# Altium integrated library Maxim Digital Potentiometers.IntLib: 1045 symbols (part 8 of 42)
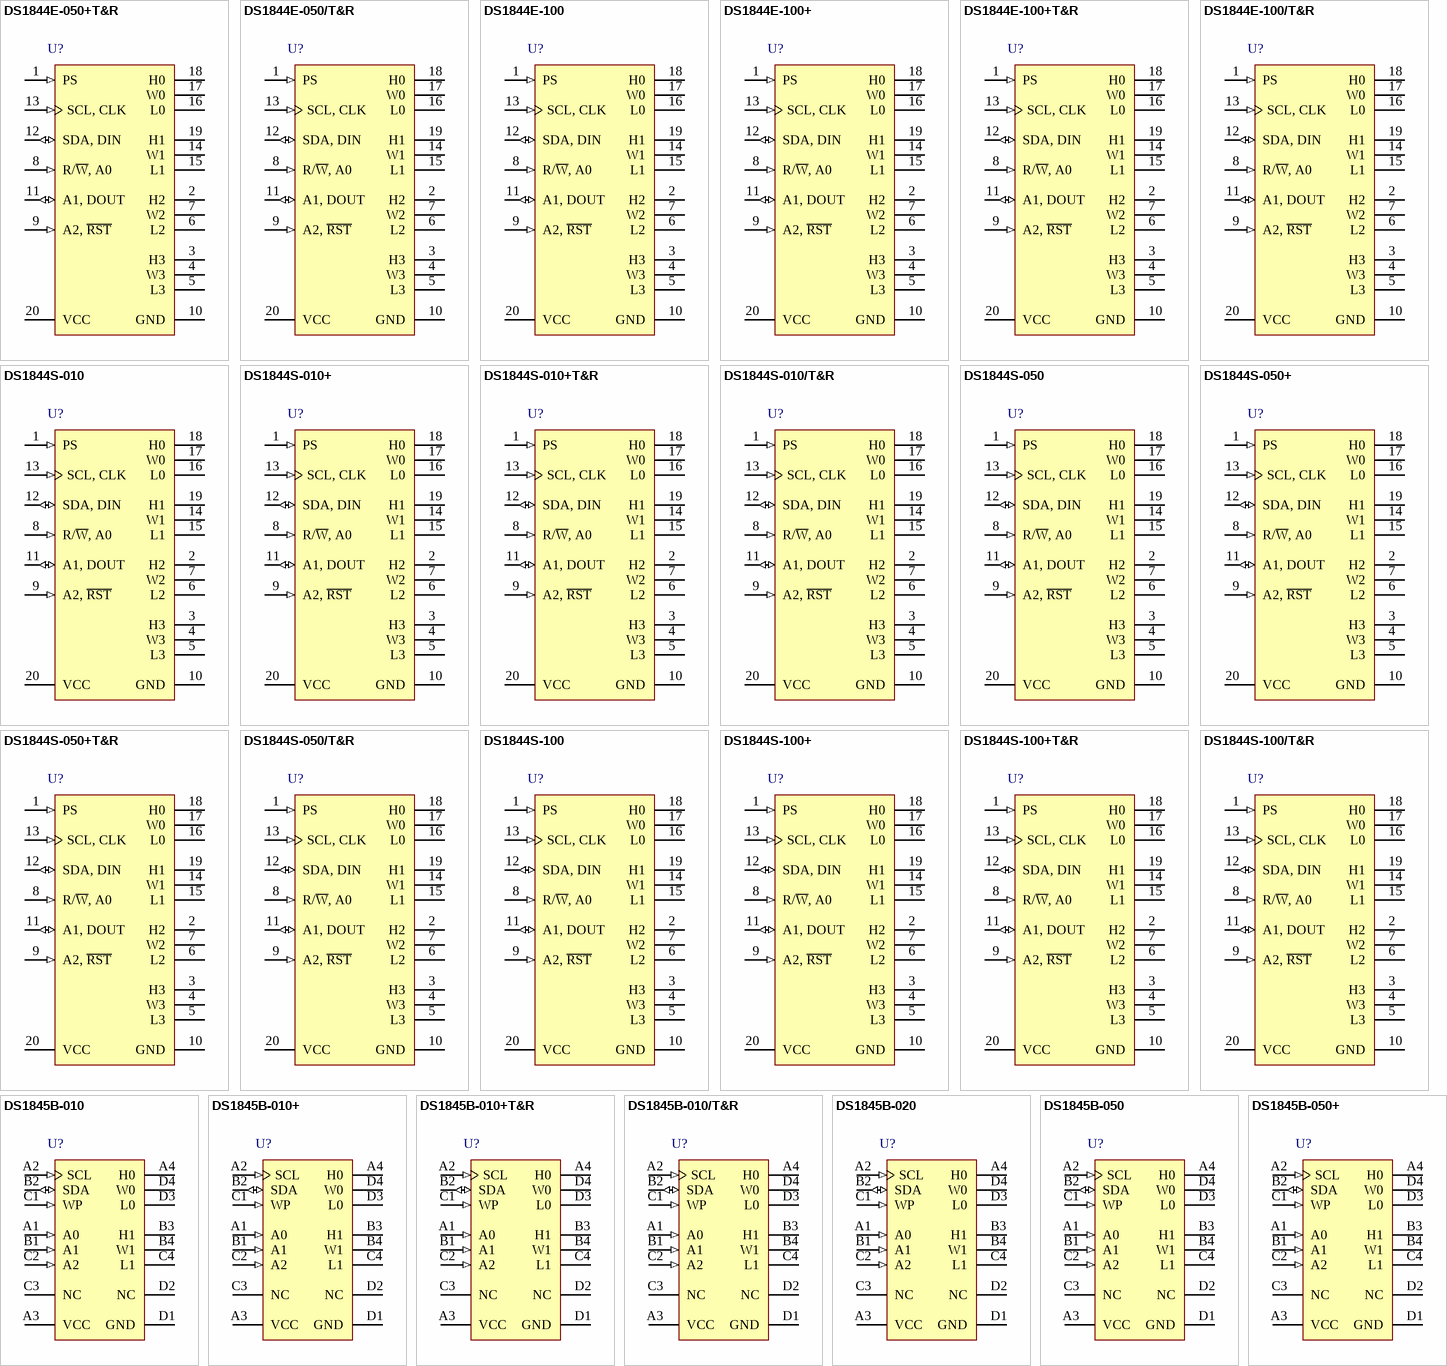
[diagram p36: symbols DS1844E-050+T&R to DS1845B-050+]

## DS1844S-010
designator U?
Quad Digital Potentiometer with 2-Wire or 5-Wire Serial Control Interface, Volatile, Linear Taper, 64 Steps, -40 to 85 degC, 20-pin SOIC (W20-1); PartNumber: DS1844S-010; DatasheetVersion: Rev. 2; PackageVersion: Rev. F, 10/2012; PackageReference: W20-1; PackageDescription: 20-Pin Small-Outline IC, Wide (0.3in) (W20-1), Body 12.8 x 7.5 mm, Pitch 1.27 mm; Supplier 1: Digi-Key; Supplier Part Number 1: DS1844S-010-ND; Supplier 2: Mouser; Supplier Part Number 2: N/A; Control Interface: 2-Wire or 5-Wire Serial; Mounting Technology: Surface Mount; Code_JEDEC: MS013; ComponentLink1Description: Manufacturer URL; ComponentLink1URL: http://www.maximintegrated.com/; ComponentLink2Description: Datasheet; ComponentLink2URL: http://datasheets.maximintegrated.com/en/ds/DS1844.pdf; ComponentLink3Description: Package Specification; ComponentLink3URL: http://pdfserv.maximintegrated.com/package_dwgs/21-0042.PDF
footprint MAXM-W20-1_N (SOIC, 20-Leads, Body 12.8x7.5mm, Pitch 1.27mm, IPC Medium Density)
footprint MAXM-W20-1_L (SOIC, 20-Leads, Body 12.8x7.5mm, Pitch 1.27mm, IPC High Density)
footprint MAXM-W20-1_M (SOIC, 20-Leads, Body 12.8x7.5mm, Pitch 1.27mm, IPC Low Density)
pins: 1 PS (in) "Port Select", 2 H2 "High-end Terminal of Pot", 3 H3 "High-end Terminal of Pot", 4 W3 "Wiper Terminal of Pot", 5 L3 "Low-end Terminal of Pot", 6 L2 "Low-end Terminal of Pot", 7 W2 "Wiper Terminal of Pot", 8 R/~{W}, A0 (in), 9 A2, ~{RST} (in), 10 GND (power) "Ground", 11 A1, DOUT (io), 12 SDA, DIN (io), 13 SCL, CLK (in), 14 W1 "Wiper Terminal of Pot", 15 L1 "Low-end Terminal of Pot", 16 L0 "Low-end Terminal of Pot", 17 W0 "Wiper Terminal of Pot", 18 H0 "High-end Terminal of Pot", 19 H1 "High-end Terminal of Pot", 20 VCC (power) "2.7V to 5.5V"

## DS1844S-010+
designator U?
Quad Digital Potentiometer with 2-Wire or 5-Wire Serial Control Interface, Volatile, Linear Taper, 64 Steps, -40 to 85 degC, 20-pin SOIC (W20+1), Pb-Free; PartNumber: DS1844S-010+; DatasheetVersion: Rev. 2; PackageVersion: Rev. F, 10/2012; PackageReference: W20+1; PackageDescription: 20-Pin Small-Outline IC, Wide (0.3in) (W20+1), Body 12.8 x 7.5 mm, Pitch 1.27 mm; Supplier 1: Digi-Key; Supplier Part Number 1: DS1844S-010+-ND; Supplier 2: Mouser; Supplier Part Number 2: 700-DS1844S-010; Control Interface: 2-Wire or 5-Wire Serial; Mounting Technology: Surface Mount; Code_JEDEC: MS013; ComponentLink1Description: Manufacturer URL; ComponentLink1URL: http://www.maximintegrated.com/; ComponentLink2Description: Datasheet; ComponentLink2URL: http://datasheets.maximintegrated.com/en/ds/DS1844.pdf; ComponentLink3Description: Package Specification; ComponentLink3URL: http://pdfserv.maximintegrated.com/package_dwgs/21-0042.PDF
footprint MAXM-W20+1_N (SOIC, 20-Leads, Body 12.8x7.5mm, Pitch 1.27mm, IPC Medium Density)
footprint MAXM-W20+1_L (SOIC, 20-Leads, Body 12.8x7.5mm, Pitch 1.27mm, IPC High Density)
footprint MAXM-W20+1_M (SOIC, 20-Leads, Body 12.8x7.5mm, Pitch 1.27mm, IPC Low Density)
pins: 1 PS (in) "Port Select", 2 H2 "High-end Terminal of Pot", 3 H3 "High-end Terminal of Pot", 4 W3 "Wiper Terminal of Pot", 5 L3 "Low-end Terminal of Pot", 6 L2 "Low-end Terminal of Pot", 7 W2 "Wiper Terminal of Pot", 8 R/~{W}, A0 (in), 9 A2, ~{RST} (in), 10 GND (power) "Ground", 11 A1, DOUT (io), 12 SDA, DIN (io), 13 SCL, CLK (in), 14 W1 "Wiper Terminal of Pot", 15 L1 "Low-end Terminal of Pot", 16 L0 "Low-end Terminal of Pot", 17 W0 "Wiper Terminal of Pot", 18 H0 "High-end Terminal of Pot", 19 H1 "High-end Terminal of Pot", 20 VCC (power) "2.7V to 5.5V"

## DS1844S-010+T&R
designator U?
Quad Digital Potentiometer with 2-Wire or 5-Wire Serial Control Interface, Volatile, Linear Taper, 64 Steps, -40 to 85 degC, 20-pin SOIC (W20+1), Pb-Free, Tape and Reel; PartNumber: DS1844S-010+T&R; DatasheetVersion: Rev. 2; PackageVersion: Rev. F, 10/2012; PackageReference: W20+1; PackageDescription: 20-Pin Small-Outline IC, Wide (0.3in) (W20+1), Body 12.8 x 7.5 mm, Pitch 1.27 mm; Supplier 1: Digi-Key; Supplier Part Number 1: DS1844S-010+T&R-ND; Supplier 2: Mouser; Supplier Part Number 2: 700-DS1844S-010T&R; Control Interface: 2-Wire or 5-Wire Serial; Mounting Technology: Surface Mount; Code_JEDEC: MS013; ComponentLink1Description: Manufacturer URL; ComponentLink1URL: http://www.maximintegrated.com/; ComponentLink2Description: Datasheet; ComponentLink2URL: http://datasheets.maximintegrated.com/en/ds/DS1844.pdf; ComponentLink3Description: Package Specification; ComponentLink3URL: http://pdfserv.maximintegrated.com/package_dwgs/21-0042.PDF
footprint MAXM-W20+1_N (SOIC, 20-Leads, Body 12.8x7.5mm, Pitch 1.27mm, IPC Medium Density)
footprint MAXM-W20+1_L (SOIC, 20-Leads, Body 12.8x7.5mm, Pitch 1.27mm, IPC High Density)
footprint MAXM-W20+1_M (SOIC, 20-Leads, Body 12.8x7.5mm, Pitch 1.27mm, IPC Low Density)
pins: 1 PS (in) "Port Select", 2 H2 "High-end Terminal of Pot", 3 H3 "High-end Terminal of Pot", 4 W3 "Wiper Terminal of Pot", 5 L3 "Low-end Terminal of Pot", 6 L2 "Low-end Terminal of Pot", 7 W2 "Wiper Terminal of Pot", 8 R/~{W}, A0 (in), 9 A2, ~{RST} (in), 10 GND (power) "Ground", 11 A1, DOUT (io), 12 SDA, DIN (io), 13 SCL, CLK (in), 14 W1 "Wiper Terminal of Pot", 15 L1 "Low-end Terminal of Pot", 16 L0 "Low-end Terminal of Pot", 17 W0 "Wiper Terminal of Pot", 18 H0 "High-end Terminal of Pot", 19 H1 "High-end Terminal of Pot", 20 VCC (power) "2.7V to 5.5V"

## DS1844S-010/T&R
designator U?
Quad Digital Potentiometer with 2-Wire or 5-Wire Serial Control Interface, Volatile, Linear Taper, 64 Steps, -40 to 85 degC, 20-pin SOIC (W20-1), Tape and Reel; PartNumber: DS1844S-010/T&R; DatasheetVersion: Rev. 2; PackageVersion: Rev. F, 10/2012; PackageReference: W20-1; PackageDescription: 20-Pin Small-Outline IC, Wide (0.3in) (W20-1), Body 12.8 x 7.5 mm, Pitch 1.27 mm; Supplier 1: Digi-Key; Supplier Part Number 1: DS1844S-010/T&R-ND; Supplier 2: Mouser; Supplier Part Number 2: N/A; Control Interface: 2-Wire or 5-Wire Serial; Mounting Technology: Surface Mount; Code_JEDEC: MS013; ComponentLink1Description: Manufacturer URL; ComponentLink1URL: http://www.maximintegrated.com/; ComponentLink2Description: Datasheet; ComponentLink2URL: http://datasheets.maximintegrated.com/en/ds/DS1844.pdf; ComponentLink3Description: Package Specification; ComponentLink3URL: http://pdfserv.maximintegrated.com/package_dwgs/21-0042.PDF
footprint MAXM-W20-1_N (SOIC, 20-Leads, Body 12.8x7.5mm, Pitch 1.27mm, IPC Medium Density)
footprint MAXM-W20-1_L (SOIC, 20-Leads, Body 12.8x7.5mm, Pitch 1.27mm, IPC High Density)
footprint MAXM-W20-1_M (SOIC, 20-Leads, Body 12.8x7.5mm, Pitch 1.27mm, IPC Low Density)
pins: 1 PS (in) "Port Select", 2 H2 "High-end Terminal of Pot", 3 H3 "High-end Terminal of Pot", 4 W3 "Wiper Terminal of Pot", 5 L3 "Low-end Terminal of Pot", 6 L2 "Low-end Terminal of Pot", 7 W2 "Wiper Terminal of Pot", 8 R/~{W}, A0 (in), 9 A2, ~{RST} (in), 10 GND (power) "Ground", 11 A1, DOUT (io), 12 SDA, DIN (io), 13 SCL, CLK (in), 14 W1 "Wiper Terminal of Pot", 15 L1 "Low-end Terminal of Pot", 16 L0 "Low-end Terminal of Pot", 17 W0 "Wiper Terminal of Pot", 18 H0 "High-end Terminal of Pot", 19 H1 "High-end Terminal of Pot", 20 VCC (power) "2.7V to 5.5V"

## DS1844S-050
designator U?
Quad Digital Potentiometer with 2-Wire or 5-Wire Serial Control Interface, Volatile, Linear Taper, 64 Steps, -40 to 85 degC, 20-pin SOIC (W20-1); PartNumber: DS1844S-050; DatasheetVersion: Rev. 2; PackageVersion: Rev. F, 10/2012; PackageReference: W20-1; PackageDescription: 20-Pin Small-Outline IC, Wide (0.3in) (W20-1), Body 12.8 x 7.5 mm, Pitch 1.27 mm; Supplier 1: Digi-Key; Supplier Part Number 1: DS1844S-050-ND; Supplier 2: Mouser; Supplier Part Number 2: N/A; Control Interface: 2-Wire or 5-Wire Serial; Mounting Technology: Surface Mount; Code_JEDEC: MS013; ComponentLink1Description: Manufacturer URL; ComponentLink1URL: http://www.maximintegrated.com/; ComponentLink2Description: Datasheet; ComponentLink2URL: http://datasheets.maximintegrated.com/en/ds/DS1844.pdf; ComponentLink3Description: Package Specification; ComponentLink3URL: http://pdfserv.maximintegrated.com/package_dwgs/21-0042.PDF
footprint MAXM-W20-1_N (SOIC, 20-Leads, Body 12.8x7.5mm, Pitch 1.27mm, IPC Medium Density)
footprint MAXM-W20-1_L (SOIC, 20-Leads, Body 12.8x7.5mm, Pitch 1.27mm, IPC High Density)
footprint MAXM-W20-1_M (SOIC, 20-Leads, Body 12.8x7.5mm, Pitch 1.27mm, IPC Low Density)
pins: 1 PS (in) "Port Select", 2 H2 "High-end Terminal of Pot", 3 H3 "High-end Terminal of Pot", 4 W3 "Wiper Terminal of Pot", 5 L3 "Low-end Terminal of Pot", 6 L2 "Low-end Terminal of Pot", 7 W2 "Wiper Terminal of Pot", 8 R/~{W}, A0 (in), 9 A2, ~{RST} (in), 10 GND (power) "Ground", 11 A1, DOUT (io), 12 SDA, DIN (io), 13 SCL, CLK (in), 14 W1 "Wiper Terminal of Pot", 15 L1 "Low-end Terminal of Pot", 16 L0 "Low-end Terminal of Pot", 17 W0 "Wiper Terminal of Pot", 18 H0 "High-end Terminal of Pot", 19 H1 "High-end Terminal of Pot", 20 VCC (power) "2.7V to 5.5V"

## DS1844S-050+
designator U?
Quad Digital Potentiometer with 2-Wire or 5-Wire Serial Control Interface, Volatile, Linear Taper, 64 Steps, -40 to 85 degC, 20-pin SOIC (W20+1), Pb-Free; PartNumber: DS1844S-050+; DatasheetVersion: Rev. 2; PackageVersion: Rev. F, 10/2012; PackageReference: W20+1; PackageDescription: 20-Pin Small-Outline IC, Wide (0.3in) (W20+1), Body 12.8 x 7.5 mm, Pitch 1.27 mm; Supplier 1: Digi-Key; Supplier Part Number 1: DS1844S-050+-ND; Supplier 2: Mouser; Supplier Part Number 2: 700-DS1844S-050; Control Interface: 2-Wire or 5-Wire Serial; Mounting Technology: Surface Mount; Code_JEDEC: MS013; ComponentLink1Description: Manufacturer URL; ComponentLink1URL: http://www.maximintegrated.com/; ComponentLink2Description: Datasheet; ComponentLink2URL: http://datasheets.maximintegrated.com/en/ds/DS1844.pdf; ComponentLink3Description: Package Specification; ComponentLink3URL: http://pdfserv.maximintegrated.com/package_dwgs/21-0042.PDF
footprint MAXM-W20+1_N (SOIC, 20-Leads, Body 12.8x7.5mm, Pitch 1.27mm, IPC Medium Density)
footprint MAXM-W20+1_L (SOIC, 20-Leads, Body 12.8x7.5mm, Pitch 1.27mm, IPC High Density)
footprint MAXM-W20+1_M (SOIC, 20-Leads, Body 12.8x7.5mm, Pitch 1.27mm, IPC Low Density)
pins: 1 PS (in) "Port Select", 2 H2 "High-end Terminal of Pot", 3 H3 "High-end Terminal of Pot", 4 W3 "Wiper Terminal of Pot", 5 L3 "Low-end Terminal of Pot", 6 L2 "Low-end Terminal of Pot", 7 W2 "Wiper Terminal of Pot", 8 R/~{W}, A0 (in), 9 A2, ~{RST} (in), 10 GND (power) "Ground", 11 A1, DOUT (io), 12 SDA, DIN (io), 13 SCL, CLK (in), 14 W1 "Wiper Terminal of Pot", 15 L1 "Low-end Terminal of Pot", 16 L0 "Low-end Terminal of Pot", 17 W0 "Wiper Terminal of Pot", 18 H0 "High-end Terminal of Pot", 19 H1 "High-end Terminal of Pot", 20 VCC (power) "2.7V to 5.5V"

## DS1844S-050+T&R
designator U?
Quad Digital Potentiometer with 2-Wire or 5-Wire Serial Control Interface, Volatile, Linear Taper, 64 Steps, -40 to 85 degC, 20-pin SOIC (W20+1), Pb-Free, Tape and Reel; PartNumber: DS1844S-050+T&R; DatasheetVersion: Rev. 2; PackageVersion: Rev. F, 10/2012; PackageReference: W20+1; PackageDescription: 20-Pin Small-Outline IC, Wide (0.3in) (W20+1), Body 12.8 x 7.5 mm, Pitch 1.27 mm; Supplier 1: Digi-Key; Supplier Part Number 1: DS1844S-050+T&R-ND; Supplier 2: Mouser; Supplier Part Number 2: 700-DS1844S-050T&R; Control Interface: 2-Wire or 5-Wire Serial; Mounting Technology: Surface Mount; Code_JEDEC: MS013; ComponentLink1Description: Manufacturer URL; ComponentLink1URL: http://www.maximintegrated.com/; ComponentLink2Description: Datasheet; ComponentLink2URL: http://datasheets.maximintegrated.com/en/ds/DS1844.pdf; ComponentLink3Description: Package Specification; ComponentLink3URL: http://pdfserv.maximintegrated.com/package_dwgs/21-0042.PDF
footprint MAXM-W20+1_N (SOIC, 20-Leads, Body 12.8x7.5mm, Pitch 1.27mm, IPC Medium Density)
footprint MAXM-W20+1_L (SOIC, 20-Leads, Body 12.8x7.5mm, Pitch 1.27mm, IPC High Density)
footprint MAXM-W20+1_M (SOIC, 20-Leads, Body 12.8x7.5mm, Pitch 1.27mm, IPC Low Density)
pins: 1 PS (in) "Port Select", 2 H2 "High-end Terminal of Pot", 3 H3 "High-end Terminal of Pot", 4 W3 "Wiper Terminal of Pot", 5 L3 "Low-end Terminal of Pot", 6 L2 "Low-end Terminal of Pot", 7 W2 "Wiper Terminal of Pot", 8 R/~{W}, A0 (in), 9 A2, ~{RST} (in), 10 GND (power) "Ground", 11 A1, DOUT (io), 12 SDA, DIN (io), 13 SCL, CLK (in), 14 W1 "Wiper Terminal of Pot", 15 L1 "Low-end Terminal of Pot", 16 L0 "Low-end Terminal of Pot", 17 W0 "Wiper Terminal of Pot", 18 H0 "High-end Terminal of Pot", 19 H1 "High-end Terminal of Pot", 20 VCC (power) "2.7V to 5.5V"

## DS1844S-050/T&R
designator U?
Quad Digital Potentiometer with 2-Wire or 5-Wire Serial Control Interface, Volatile, Linear Taper, 64 Steps, -40 to 85 degC, 20-pin SOIC (W20-1), Tape and Reel; PartNumber: DS1844S-050/T&R; DatasheetVersion: Rev. 2; PackageVersion: Rev. F, 10/2012; PackageReference: W20-1; PackageDescription: 20-Pin Small-Outline IC, Wide (0.3in) (W20-1), Body 12.8 x 7.5 mm, Pitch 1.27 mm; Supplier 1: Mouser; Supplier Part Number 1: N/A; Control Interface: 2-Wire or 5-Wire Serial; Mounting Technology: Surface Mount; Code_JEDEC: MS013; ComponentLink1Description: Manufacturer URL; ComponentLink1URL: http://www.maximintegrated.com/; ComponentLink2Description: Datasheet; ComponentLink2URL: http://datasheets.maximintegrated.com/en/ds/DS1844.pdf; ComponentLink3Description: Package Specification; ComponentLink3URL: http://pdfserv.maximintegrated.com/package_dwgs/21-0042.PDF
footprint MAXM-W20-1_N (SOIC, 20-Leads, Body 12.8x7.5mm, Pitch 1.27mm, IPC Medium Density)
footprint MAXM-W20-1_L (SOIC, 20-Leads, Body 12.8x7.5mm, Pitch 1.27mm, IPC High Density)
footprint MAXM-W20-1_M (SOIC, 20-Leads, Body 12.8x7.5mm, Pitch 1.27mm, IPC Low Density)
pins: 1 PS (in) "Port Select", 2 H2 "High-end Terminal of Pot", 3 H3 "High-end Terminal of Pot", 4 W3 "Wiper Terminal of Pot", 5 L3 "Low-end Terminal of Pot", 6 L2 "Low-end Terminal of Pot", 7 W2 "Wiper Terminal of Pot", 8 R/~{W}, A0 (in), 9 A2, ~{RST} (in), 10 GND (power) "Ground", 11 A1, DOUT (io), 12 SDA, DIN (io), 13 SCL, CLK (in), 14 W1 "Wiper Terminal of Pot", 15 L1 "Low-end Terminal of Pot", 16 L0 "Low-end Terminal of Pot", 17 W0 "Wiper Terminal of Pot", 18 H0 "High-end Terminal of Pot", 19 H1 "High-end Terminal of Pot", 20 VCC (power) "2.7V to 5.5V"

## DS1844S-100
designator U?
Quad Digital Potentiometer with 2-Wire or 5-Wire Serial Control Interface, Volatile, Linear Taper, 64 Steps, -40 to 85 degC, 20-pin SOIC (W20-1); PartNumber: DS1844S-100; DatasheetVersion: Rev. 2; PackageVersion: Rev. F, 10/2012; PackageReference: W20-1; PackageDescription: 20-Pin Small-Outline IC, Wide (0.3in) (W20-1), Body 12.8 x 7.5 mm, Pitch 1.27 mm; Supplier 1: Digi-Key; Supplier Part Number 1: DS1844S-100-ND; Supplier 2: Mouser; Supplier Part Number 2: N/A; Control Interface: 2-Wire or 5-Wire Serial; Mounting Technology: Surface Mount; Code_JEDEC: MS013; ComponentLink1Description: Manufacturer URL; ComponentLink1URL: http://www.maximintegrated.com/; ComponentLink2Description: Datasheet; ComponentLink2URL: http://datasheets.maximintegrated.com/en/ds/DS1844.pdf; ComponentLink3Description: Package Specification; ComponentLink3URL: http://pdfserv.maximintegrated.com/package_dwgs/21-0042.PDF
footprint MAXM-W20-1_N (SOIC, 20-Leads, Body 12.8x7.5mm, Pitch 1.27mm, IPC Medium Density)
footprint MAXM-W20-1_L (SOIC, 20-Leads, Body 12.8x7.5mm, Pitch 1.27mm, IPC High Density)
footprint MAXM-W20-1_M (SOIC, 20-Leads, Body 12.8x7.5mm, Pitch 1.27mm, IPC Low Density)
pins: 1 PS (in) "Port Select", 2 H2 "High-end Terminal of Pot", 3 H3 "High-end Terminal of Pot", 4 W3 "Wiper Terminal of Pot", 5 L3 "Low-end Terminal of Pot", 6 L2 "Low-end Terminal of Pot", 7 W2 "Wiper Terminal of Pot", 8 R/~{W}, A0 (in), 9 A2, ~{RST} (in), 10 GND (power) "Ground", 11 A1, DOUT (io), 12 SDA, DIN (io), 13 SCL, CLK (in), 14 W1 "Wiper Terminal of Pot", 15 L1 "Low-end Terminal of Pot", 16 L0 "Low-end Terminal of Pot", 17 W0 "Wiper Terminal of Pot", 18 H0 "High-end Terminal of Pot", 19 H1 "High-end Terminal of Pot", 20 VCC (power) "2.7V to 5.5V"

## DS1844S-100+
designator U?
Quad Digital Potentiometer with 2-Wire or 5-Wire Serial Control Interface, Volatile, Linear Taper, 64 Steps, -40 to 85 degC, 20-pin SOIC (W20+1), Pb-Free; PartNumber: DS1844S-100+; DatasheetVersion: Rev. 2; PackageVersion: Rev. F, 10/2012; PackageReference: W20+1; PackageDescription: 20-Pin Small-Outline IC, Wide (0.3in) (W20+1), Body 12.8 x 7.5 mm, Pitch 1.27 mm; Supplier 1: Digi-Key; Supplier Part Number 1: DS1844S-100+-ND; Supplier 2: Mouser; Supplier Part Number 2: 700-DS1844S-100; Control Interface: 2-Wire or 5-Wire Serial; Mounting Technology: Surface Mount; Code_JEDEC: MS013; ComponentLink1Description: Manufacturer URL; ComponentLink1URL: http://www.maximintegrated.com/; ComponentLink2Description: Datasheet; ComponentLink2URL: http://datasheets.maximintegrated.com/en/ds/DS1844.pdf; ComponentLink3Description: Package Specification; ComponentLink3URL: http://pdfserv.maximintegrated.com/package_dwgs/21-0042.PDF
footprint MAXM-W20+1_N (SOIC, 20-Leads, Body 12.8x7.5mm, Pitch 1.27mm, IPC Medium Density)
footprint MAXM-W20+1_L (SOIC, 20-Leads, Body 12.8x7.5mm, Pitch 1.27mm, IPC High Density)
footprint MAXM-W20+1_M (SOIC, 20-Leads, Body 12.8x7.5mm, Pitch 1.27mm, IPC Low Density)
pins: 1 PS (in) "Port Select", 2 H2 "High-end Terminal of Pot", 3 H3 "High-end Terminal of Pot", 4 W3 "Wiper Terminal of Pot", 5 L3 "Low-end Terminal of Pot", 6 L2 "Low-end Terminal of Pot", 7 W2 "Wiper Terminal of Pot", 8 R/~{W}, A0 (in), 9 A2, ~{RST} (in), 10 GND (power) "Ground", 11 A1, DOUT (io), 12 SDA, DIN (io), 13 SCL, CLK (in), 14 W1 "Wiper Terminal of Pot", 15 L1 "Low-end Terminal of Pot", 16 L0 "Low-end Terminal of Pot", 17 W0 "Wiper Terminal of Pot", 18 H0 "High-end Terminal of Pot", 19 H1 "High-end Terminal of Pot", 20 VCC (power) "2.7V to 5.5V"

## DS1844S-100+T&R
designator U?
Quad Digital Potentiometer with 2-Wire or 5-Wire Serial Control Interface, Volatile, Linear Taper, 64 Steps, -40 to 85 degC, 20-pin SOIC (W20+1), Pb-Free, Tape and Reel; PartNumber: DS1844S-100+T&R; DatasheetVersion: Rev. 2; PackageVersion: Rev. F, 10/2012; PackageReference: W20+1; PackageDescription: 20-Pin Small-Outline IC, Wide (0.3in) (W20+1), Body 12.8 x 7.5 mm, Pitch 1.27 mm; Supplier 1: Digi-Key; Supplier Part Number 1: DS1844S-100+T&R-ND; Supplier 2: Mouser; Supplier Part Number 2: 700-DS1844S-100T&R; Control Interface: 2-Wire or 5-Wire Serial; Mounting Technology: Surface Mount; Code_JEDEC: MS013; ComponentLink1Description: Manufacturer URL; ComponentLink1URL: http://www.maximintegrated.com/; ComponentLink2Description: Datasheet; ComponentLink2URL: http://datasheets.maximintegrated.com/en/ds/DS1844.pdf; ComponentLink3Description: Package Specification; ComponentLink3URL: http://pdfserv.maximintegrated.com/package_dwgs/21-0042.PDF
footprint MAXM-W20+1_N (SOIC, 20-Leads, Body 12.8x7.5mm, Pitch 1.27mm, IPC Medium Density)
footprint MAXM-W20+1_L (SOIC, 20-Leads, Body 12.8x7.5mm, Pitch 1.27mm, IPC High Density)
footprint MAXM-W20+1_M (SOIC, 20-Leads, Body 12.8x7.5mm, Pitch 1.27mm, IPC Low Density)
pins: 1 PS (in) "Port Select", 2 H2 "High-end Terminal of Pot", 3 H3 "High-end Terminal of Pot", 4 W3 "Wiper Terminal of Pot", 5 L3 "Low-end Terminal of Pot", 6 L2 "Low-end Terminal of Pot", 7 W2 "Wiper Terminal of Pot", 8 R/~{W}, A0 (in), 9 A2, ~{RST} (in), 10 GND (power) "Ground", 11 A1, DOUT (io), 12 SDA, DIN (io), 13 SCL, CLK (in), 14 W1 "Wiper Terminal of Pot", 15 L1 "Low-end Terminal of Pot", 16 L0 "Low-end Terminal of Pot", 17 W0 "Wiper Terminal of Pot", 18 H0 "High-end Terminal of Pot", 19 H1 "High-end Terminal of Pot", 20 VCC (power) "2.7V to 5.5V"

## DS1844S-100/T&R
designator U?
Quad Digital Potentiometer with 2-Wire or 5-Wire Serial Control Interface, Volatile, Linear Taper, 64 Steps, -40 to 85 degC, 20-pin SOIC (W20-1), Tape and Reel; PartNumber: DS1844S-100/T&R; DatasheetVersion: Rev. 2; PackageVersion: Rev. F, 10/2012; PackageReference: W20-1; PackageDescription: 20-Pin Small-Outline IC, Wide (0.3in) (W20-1), Body 12.8 x 7.5 mm, Pitch 1.27 mm; Supplier 1: Digi-Key; Supplier Part Number 1: DS1844S-100/T&R-ND; Supplier 2: Mouser; Supplier Part Number 2: N/A; Control Interface: 2-Wire or 5-Wire Serial; Mounting Technology: Surface Mount; Code_JEDEC: MS013; ComponentLink1Description: Manufacturer URL; ComponentLink1URL: http://www.maximintegrated.com/; ComponentLink2Description: Datasheet; ComponentLink2URL: http://datasheets.maximintegrated.com/en/ds/DS1844.pdf; ComponentLink3Description: Package Specification; ComponentLink3URL: http://pdfserv.maximintegrated.com/package_dwgs/21-0042.PDF
footprint MAXM-W20-1_N (SOIC, 20-Leads, Body 12.8x7.5mm, Pitch 1.27mm, IPC Medium Density)
footprint MAXM-W20-1_L (SOIC, 20-Leads, Body 12.8x7.5mm, Pitch 1.27mm, IPC High Density)
footprint MAXM-W20-1_M (SOIC, 20-Leads, Body 12.8x7.5mm, Pitch 1.27mm, IPC Low Density)
pins: 1 PS (in) "Port Select", 2 H2 "High-end Terminal of Pot", 3 H3 "High-end Terminal of Pot", 4 W3 "Wiper Terminal of Pot", 5 L3 "Low-end Terminal of Pot", 6 L2 "Low-end Terminal of Pot", 7 W2 "Wiper Terminal of Pot", 8 R/~{W}, A0 (in), 9 A2, ~{RST} (in), 10 GND (power) "Ground", 11 A1, DOUT (io), 12 SDA, DIN (io), 13 SCL, CLK (in), 14 W1 "Wiper Terminal of Pot", 15 L1 "Low-end Terminal of Pot", 16 L0 "Low-end Terminal of Pot", 17 W0 "Wiper Terminal of Pot", 18 H0 "High-end Terminal of Pot", 19 H1 "High-end Terminal of Pot", 20 VCC (power) "2.7V to 5.5V"

## DS1845B-010
designator U?
Dual NV Potentiometer and Memory with 2-Wire Addressable Control Interface, Non-Volatile, Linear Taper, 100+256 Steps, -40 to 85 degC, 16-pin CSBGA (X16-1); PartNumber: DS1845B-010; DatasheetVersion: Rev. 3; PackageVersion: Rev. B, 06/2010; PackageReference: X16-1; PackageDescription: 16-Ball Chip-Scale Ball-Grid Array (X16-1), Body 4 x 4 mm, Pitch 1.0 mm; Supplier 1: Digi-Key; Supplier Part Number 1: DS1845B-010-ND; Supplier 2: Mouser; Supplier Part Number 2: N/A; Applications: Fiber Communications, GBIC; Control Interface: 2-Wire Addressable; Features: 256-Byte User EEPROM, EEPROM Wiper Memory; Mounting Technology: Surface Mount; ComponentLink1Description: Manufacturer URL; ComponentLink1URL: http://www.maximintegrated.com/; ComponentLink2Description: Datasheet; ComponentLink2URL: http://datasheets.maximintegrated.com/en/ds/DS1845.pdf; ComponentLink3Description: Package Specification; ComponentLink3URL: http://pdfserv.maximintegrated.com/package_dwgs/21-0355.PDF
footprint MAXM-X16-1 (BGA, 16-Balls, Body 4x4mm, Pitch 1.0mm)
pins: A1 A0 (in) "Address Input. Pins A0, A1, and A2 are used to specify the address of each DS1855 when used in a multi-dropped configuration. Up to eight DS1855s may be addressed on a single 2-wire bus.", A2 SCL (in) "2-Wire Serial Clock Input. The serial clock input is used to clock data into the DS1855 on rising edges and clock data out on falling edges.", A3 VCC (power) "Power Supply Terminal. The DS1855 will support supply voltages ranging from +2.7V to +5.5V.", A4 H0 "High terminal of Potentiometer 0. For both potentiometers, it is not required that the high terminal be connected to a potential greater than the low terminal. Voltage applied to the high terminal of each potentiometer (See Datasheet)", B1 A1 (in) "Address Input.", B2 SDA (io) "2-Wire serial data interface. The serial data pin is for serial data transfer to and from the DS1855. The pin is open drain and may be wire-ORed with other open drain or open collector interfaces.", B3 H1 "High terminal of Potentiometer 1.", B4 W1 "Wiper terminal of Pot 1. The wiper position of Potentiometer 1 is determined by the byte at EEPROM memory location F8h.", C1 WP (in) "Write Protect Input. If set to logic 0, the data in memory and the potentiometer wiper setting may be changed. If set to logic 1, both the memory and the potentiometer wiper settings will be write protected. The WP pin is (See Datasheet)", C2 A2 (in) "Address Input.", C3 NC "No Connect.", C4 L1 "Low terminal of Potentiometer 1.", D1 GND (power) "Ground Terminal.", D2 NC "No Connect.", D3 L0 "Low terminal of Potentiometer 0. For both potentiometers, it is not required that the low terminal be connected to a potential less than the high terminal. Voltage applied to the low terminal of each potentiometer cannot (See Datasheet)", D4 W0 "Wiper terminal of Pot 0. The wiper position of Potentiometer 0 is determined by the byte at EEPROM memory location F9h. Voltage applied to the wiper terminal of each potentiometer cannot exceed the power supply voltage, VCC, (See Datasheet)"

## DS1845B-010+
designator U?
Dual NV Potentiometer and Memory with 2-Wire Addressable Control Interface, Non-Volatile, Linear Taper, 100+256 Steps, -40 to 85 degC, 16-pin CSBGA (X16+1), Pb-Free; PartNumber: DS1845B-010+; DatasheetVersion: Rev. 3; PackageVersion: Rev. B, 06/2010; PackageReference: X16+1; PackageDescription: 16-Ball Chip-Scale Ball-Grid Array (X16+1), Body 4 x 4 mm, Pitch 1.0 mm; Supplier 1: Digi-Key; Supplier Part Number 1: DS1845B-010+-ND; Supplier 2: Mouser; Supplier Part Number 2: 700-DS1845B-010; Applications: Fiber Communications, GBIC; Control Interface: 2-Wire Addressable; Features: 256-Byte User EEPROM, EEPROM Wiper Memory; Mounting Technology: Surface Mount; ComponentLink1Description: Manufacturer URL; ComponentLink1URL: http://www.maximintegrated.com/; ComponentLink2Description: Datasheet; ComponentLink2URL: http://datasheets.maximintegrated.com/en/ds/DS1845.pdf; ComponentLink3Description: Package Specification; ComponentLink3URL: http://pdfserv.maximintegrated.com/package_dwgs/21-0355.PDF
footprint MAXM-X16+1 (BGA, 16-Balls, Body 4x4mm, Pitch 1.0mm)
pins: A1 A0 (in) "Address Input. Pins A0, A1, and A2 are used to specify the address of each DS1855 when used in a multi-dropped configuration. Up to eight DS1855s may be addressed on a single 2-wire bus.", A2 SCL (in) "2-Wire Serial Clock Input. The serial clock input is used to clock data into the DS1855 on rising edges and clock data out on falling edges.", A3 VCC (power) "Power Supply Terminal. The DS1855 will support supply voltages ranging from +2.7V to +5.5V.", A4 H0 "High terminal of Potentiometer 0. For both potentiometers, it is not required that the high terminal be connected to a potential greater than the low terminal. Voltage applied to the high terminal of each potentiometer (See Datasheet)", B1 A1 (in) "Address Input.", B2 SDA (io) "2-Wire serial data interface. The serial data pin is for serial data transfer to and from the DS1855. The pin is open drain and may be wire-ORed with other open drain or open collector interfaces.", B3 H1 "High terminal of Potentiometer 1.", B4 W1 "Wiper terminal of Pot 1. The wiper position of Potentiometer 1 is determined by the byte at EEPROM memory location F8h.", C1 WP (in) "Write Protect Input. If set to logic 0, the data in memory and the potentiometer wiper setting may be changed. If set to logic 1, both the memory and the potentiometer wiper settings will be write protected. The WP pin is (See Datasheet)", C2 A2 (in) "Address Input.", C3 NC "No Connect.", C4 L1 "Low terminal of Potentiometer 1.", D1 GND (power) "Ground Terminal.", D2 NC "No Connect.", D3 L0 "Low terminal of Potentiometer 0. For both potentiometers, it is not required that the low terminal be connected to a potential less than the high terminal. Voltage applied to the low terminal of each potentiometer cannot (See Datasheet)", D4 W0 "Wiper terminal of Pot 0. The wiper position of Potentiometer 0 is determined by the byte at EEPROM memory location F9h. Voltage applied to the wiper terminal of each potentiometer cannot exceed the power supply voltage, VCC, (See Datasheet)"

## DS1845B-010+T&R
designator U?
Dual NV Potentiometer and Memory with 2-Wire Addressable Control Interface, Non-Volatile, Linear Taper, 100+256 Steps, -40 to 85 degC, 16-pin CSBGA (X16+1), Pb-Free, Tape and Reel; PartNumber: DS1845B-010+T&R; DatasheetVersion: Rev. 3; PackageVersion: Rev. B, 06/2010; PackageReference: X16+1; PackageDescription: 16-Ball Chip-Scale Ball-Grid Array (X16+1), Body 4 x 4 mm, Pitch 1.0 mm; Supplier 1: Digi-Key; Supplier Part Number 1: DS1845B-010+T&R-ND; Supplier 2: Mouser; Supplier Part Number 2: 700-DS1845B-010T&R; Applications: Fiber Communications, GBIC; Control Interface: 2-Wire Addressable; Features: 256-Byte User EEPROM, EEPROM Wiper Memory; Mounting Technology: Surface Mount; ComponentLink1Description: Manufacturer URL; ComponentLink1URL: http://www.maximintegrated.com/; ComponentLink2Description: Datasheet; ComponentLink2URL: http://datasheets.maximintegrated.com/en/ds/DS1845.pdf; ComponentLink3Description: Package Specification; ComponentLink3URL: http://pdfserv.maximintegrated.com/package_dwgs/21-0355.PDF
footprint MAXM-X16+1 (BGA, 16-Balls, Body 4x4mm, Pitch 1.0mm)
pins: A1 A0 (in) "Address Input. Pins A0, A1, and A2 are used to specify the address of each DS1855 when used in a multi-dropped configuration. Up to eight DS1855s may be addressed on a single 2-wire bus.", A2 SCL (in) "2-Wire Serial Clock Input. The serial clock input is used to clock data into the DS1855 on rising edges and clock data out on falling edges.", A3 VCC (power) "Power Supply Terminal. The DS1855 will support supply voltages ranging from +2.7V to +5.5V.", A4 H0 "High terminal of Potentiometer 0. For both potentiometers, it is not required that the high terminal be connected to a potential greater than the low terminal. Voltage applied to the high terminal of each potentiometer (See Datasheet)", B1 A1 (in) "Address Input.", B2 SDA (io) "2-Wire serial data interface. The serial data pin is for serial data transfer to and from the DS1855. The pin is open drain and may be wire-ORed with other open drain or open collector interfaces.", B3 H1 "High terminal of Potentiometer 1.", B4 W1 "Wiper terminal of Pot 1. The wiper position of Potentiometer 1 is determined by the byte at EEPROM memory location F8h.", C1 WP (in) "Write Protect Input. If set to logic 0, the data in memory and the potentiometer wiper setting may be changed. If set to logic 1, both the memory and the potentiometer wiper settings will be write protected. The WP pin is (See Datasheet)", C2 A2 (in) "Address Input.", C3 NC "No Connect.", C4 L1 "Low terminal of Potentiometer 1.", D1 GND (power) "Ground Terminal.", D2 NC "No Connect.", D3 L0 "Low terminal of Potentiometer 0. For both potentiometers, it is not required that the low terminal be connected to a potential less than the high terminal. Voltage applied to the low terminal of each potentiometer cannot (See Datasheet)", D4 W0 "Wiper terminal of Pot 0. The wiper position of Potentiometer 0 is determined by the byte at EEPROM memory location F9h. Voltage applied to the wiper terminal of each potentiometer cannot exceed the power supply voltage, VCC, (See Datasheet)"

## DS1845B-010/T&R
designator U?
Dual NV Potentiometer and Memory with 2-Wire Addressable Control Interface, Non-Volatile, Linear Taper, 100+256 Steps, -40 to 85 degC, 16-pin CSBGA (X16-1), Tape and Reel; PartNumber: DS1845B-010/T&R; DatasheetVersion: Rev. 3; PackageVersion: Rev. B, 06/2010; PackageReference: X16-1; PackageDescription: 16-Ball Chip-Scale Ball-Grid Array (X16-1), Body 4 x 4 mm, Pitch 1.0 mm; Supplier 1: Mouser; Supplier Part Number 1: N/A; Applications: Fiber Communications, GBIC; Control Interface: 2-Wire Addressable; Features: 256-Byte User EEPROM, EEPROM Wiper Memory; Mounting Technology: Surface Mount; ComponentLink1Description: Manufacturer URL; ComponentLink1URL: http://www.maximintegrated.com/; ComponentLink2Description: Datasheet; ComponentLink2URL: http://datasheets.maximintegrated.com/en/ds/DS1845.pdf; ComponentLink3Description: Package Specification; ComponentLink3URL: http://pdfserv.maximintegrated.com/package_dwgs/21-0355.PDF
footprint MAXM-X16-1 (BGA, 16-Balls, Body 4x4mm, Pitch 1.0mm)
pins: A1 A0 (in) "Address Input. Pins A0, A1, and A2 are used to specify the address of each DS1855 when used in a multi-dropped configuration. Up to eight DS1855s may be addressed on a single 2-wire bus.", A2 SCL (in) "2-Wire Serial Clock Input. The serial clock input is used to clock data into the DS1855 on rising edges and clock data out on falling edges.", A3 VCC (power) "Power Supply Terminal. The DS1855 will support supply voltages ranging from +2.7V to +5.5V.", A4 H0 "High terminal of Potentiometer 0. For both potentiometers, it is not required that the high terminal be connected to a potential greater than the low terminal. Voltage applied to the high terminal of each potentiometer (See Datasheet)", B1 A1 (in) "Address Input.", B2 SDA (io) "2-Wire serial data interface. The serial data pin is for serial data transfer to and from the DS1855. The pin is open drain and may be wire-ORed with other open drain or open collector interfaces.", B3 H1 "High terminal of Potentiometer 1.", B4 W1 "Wiper terminal of Pot 1. The wiper position of Potentiometer 1 is determined by the byte at EEPROM memory location F8h.", C1 WP (in) "Write Protect Input. If set to logic 0, the data in memory and the potentiometer wiper setting may be changed. If set to logic 1, both the memory and the potentiometer wiper settings will be write protected. The WP pin is (See Datasheet)", C2 A2 (in) "Address Input.", C3 NC "No Connect.", C4 L1 "Low terminal of Potentiometer 1.", D1 GND (power) "Ground Terminal.", D2 NC "No Connect.", D3 L0 "Low terminal of Potentiometer 0. For both potentiometers, it is not required that the low terminal be connected to a potential less than the high terminal. Voltage applied to the low terminal of each potentiometer cannot (See Datasheet)", D4 W0 "Wiper terminal of Pot 0. The wiper position of Potentiometer 0 is determined by the byte at EEPROM memory location F9h. Voltage applied to the wiper terminal of each potentiometer cannot exceed the power supply voltage, VCC, (See Datasheet)"

## DS1845B-020
designator U?
Dual NV Potentiometer and Memory with 2-Wire Addressable Control Interface, Non-Volatile, Linear Taper, 100+256 Steps, -40 to 85 degC, 16-pin CSBGA (X16-1); PartNumber: DS1845B-020; DatasheetVersion: Rev. 3; PackageVersion: Rev. B, 06/2010; PackageReference: X16-1; PackageDescription: 16-Ball Chip-Scale Ball-Grid Array (X16-1), Body 4 x 4 mm, Pitch 1.0 mm; Supplier 1: Mouser; Supplier Part Number 1: N/A; Applications: Fiber Communications, GBIC; Control Interface: 2-Wire Addressable; Features: 256-Byte User EEPROM, EEPROM Wiper Memory; Mounting Technology: Surface Mount; ComponentLink1Description: Manufacturer URL; ComponentLink1URL: http://www.maximintegrated.com/; ComponentLink2Description: Datasheet; ComponentLink2URL: http://datasheets.maximintegrated.com/en/ds/DS1845.pdf; ComponentLink3Description: Package Specification; ComponentLink3URL: http://pdfserv.maximintegrated.com/package_dwgs/21-0355.PDF
footprint MAXM-X16-1 (BGA, 16-Balls, Body 4x4mm, Pitch 1.0mm)
pins: A1 A0 (in) "Address Input. Pins A0, A1, and A2 are used to specify the address of each DS1855 when used in a multi-dropped configuration. Up to eight DS1855s may be addressed on a single 2-wire bus.", A2 SCL (in) "2-Wire Serial Clock Input. The serial clock input is used to clock data into the DS1855 on rising edges and clock data out on falling edges.", A3 VCC (power) "Power Supply Terminal. The DS1855 will support supply voltages ranging from +2.7V to +5.5V.", A4 H0 "High terminal of Potentiometer 0. For both potentiometers, it is not required that the high terminal be connected to a potential greater than the low terminal. Voltage applied to the high terminal of each potentiometer (See Datasheet)", B1 A1 (in) "Address Input.", B2 SDA (io) "2-Wire serial data interface. The serial data pin is for serial data transfer to and from the DS1855. The pin is open drain and may be wire-ORed with other open drain or open collector interfaces.", B3 H1 "High terminal of Potentiometer 1.", B4 W1 "Wiper terminal of Pot 1. The wiper position of Potentiometer 1 is determined by the byte at EEPROM memory location F8h.", C1 WP (in) "Write Protect Input. If set to logic 0, the data in memory and the potentiometer wiper setting may be changed. If set to logic 1, both the memory and the potentiometer wiper settings will be write protected. The WP pin is (See Datasheet)", C2 A2 (in) "Address Input.", C3 NC "No Connect.", C4 L1 "Low terminal of Potentiometer 1.", D1 GND (power) "Ground Terminal.", D2 NC "No Connect.", D3 L0 "Low terminal of Potentiometer 0. For both potentiometers, it is not required that the low terminal be connected to a potential less than the high terminal. Voltage applied to the low terminal of each potentiometer cannot (See Datasheet)", D4 W0 "Wiper terminal of Pot 0. The wiper position of Potentiometer 0 is determined by the byte at EEPROM memory location F9h. Voltage applied to the wiper terminal of each potentiometer cannot exceed the power supply voltage, VCC, (See Datasheet)"

## DS1845B-050
designator U?
Dual NV Potentiometer and Memory with 2-Wire Addressable Control Interface, Non-Volatile, Linear Taper, 100+256 Steps, -40 to 85 degC, 16-pin CSBGA (X16-1); PartNumber: DS1845B-050; DatasheetVersion: Rev. 3; PackageVersion: Rev. B, 06/2010; PackageReference: X16-1; PackageDescription: 16-Ball Chip-Scale Ball-Grid Array (X16-1), Body 4 x 4 mm, Pitch 1.0 mm; Supplier 1: Digi-Key; Supplier Part Number 1: DS1845B-050-ND; Supplier 2: Mouser; Supplier Part Number 2: N/A; Applications: Fiber Communications, GBIC; Control Interface: 2-Wire Addressable; Features: 256-Byte User EEPROM, EEPROM Wiper Memory; Mounting Technology: Surface Mount; ComponentLink1Description: Manufacturer URL; ComponentLink1URL: http://www.maximintegrated.com/; ComponentLink2Description: Datasheet; ComponentLink2URL: http://datasheets.maximintegrated.com/en/ds/DS1845.pdf; ComponentLink3Description: Package Specification; ComponentLink3URL: http://pdfserv.maximintegrated.com/package_dwgs/21-0355.PDF
footprint MAXM-X16-1 (BGA, 16-Balls, Body 4x4mm, Pitch 1.0mm)
pins: A1 A0 (in) "Address Input. Pins A0, A1, and A2 are used to specify the address of each DS1855 when used in a multi-dropped configuration. Up to eight DS1855s may be addressed on a single 2-wire bus.", A2 SCL (in) "2-Wire Serial Clock Input. The serial clock input is used to clock data into the DS1855 on rising edges and clock data out on falling edges.", A3 VCC (power) "Power Supply Terminal. The DS1855 will support supply voltages ranging from +2.7V to +5.5V.", A4 H0 "High terminal of Potentiometer 0. For both potentiometers, it is not required that the high terminal be connected to a potential greater than the low terminal. Voltage applied to the high terminal of each potentiometer (See Datasheet)", B1 A1 (in) "Address Input.", B2 SDA (io) "2-Wire serial data interface. The serial data pin is for serial data transfer to and from the DS1855. The pin is open drain and may be wire-ORed with other open drain or open collector interfaces.", B3 H1 "High terminal of Potentiometer 1.", B4 W1 "Wiper terminal of Pot 1. The wiper position of Potentiometer 1 is determined by the byte at EEPROM memory location F8h.", C1 WP (in) "Write Protect Input. If set to logic 0, the data in memory and the potentiometer wiper setting may be changed. If set to logic 1, both the memory and the potentiometer wiper settings will be write protected. The WP pin is (See Datasheet)", C2 A2 (in) "Address Input.", C3 NC "No Connect.", C4 L1 "Low terminal of Potentiometer 1.", D1 GND (power) "Ground Terminal.", D2 NC "No Connect.", D3 L0 "Low terminal of Potentiometer 0. For both potentiometers, it is not required that the low terminal be connected to a potential less than the high terminal. Voltage applied to the low terminal of each potentiometer cannot (See Datasheet)", D4 W0 "Wiper terminal of Pot 0. The wiper position of Potentiometer 0 is determined by the byte at EEPROM memory location F9h. Voltage applied to the wiper terminal of each potentiometer cannot exceed the power supply voltage, VCC, (See Datasheet)"

## DS1845B-050+
designator U?
Dual NV Potentiometer and Memory with 2-Wire Addressable Control Interface, Non-Volatile, Linear Taper, 100+256 Steps, -40 to 85 degC, 16-pin CSBGA (X16+1), Pb-Free; PartNumber: DS1845B-050+; DatasheetVersion: Rev. 3; PackageVersion: Rev. B, 06/2010; PackageReference: X16+1; PackageDescription: 16-Ball Chip-Scale Ball-Grid Array (X16+1), Body 4 x 4 mm, Pitch 1.0 mm; Supplier 1: Digi-Key; Supplier Part Number 1: DS1845B-050+-ND; Supplier 2: Mouser; Supplier Part Number 2: 700-DS1845B-050; Applications: Fiber Communications, GBIC; Control Interface: 2-Wire Addressable; Features: 256-Byte User EEPROM, EEPROM Wiper Memory; Mounting Technology: Surface Mount; ComponentLink1Description: Manufacturer URL; ComponentLink1URL: http://www.maximintegrated.com/; ComponentLink2Description: Datasheet; ComponentLink2URL: http://datasheets.maximintegrated.com/en/ds/DS1845.pdf; ComponentLink3Description: Package Specification; ComponentLink3URL: http://pdfserv.maximintegrated.com/package_dwgs/21-0355.PDF
footprint MAXM-X16+1 (BGA, 16-Balls, Body 4x4mm, Pitch 1.0mm)
pins: A1 A0 (in) "Address Input. Pins A0, A1, and A2 are used to specify the address of each DS1855 when used in a multi-dropped configuration. Up to eight DS1855s may be addressed on a single 2-wire bus.", A2 SCL (in) "2-Wire Serial Clock Input. The serial clock input is used to clock data into the DS1855 on rising edges and clock data out on falling edges.", A3 VCC (power) "Power Supply Terminal. The DS1855 will support supply voltages ranging from +2.7V to +5.5V.", A4 H0 "High terminal of Potentiometer 0. For both potentiometers, it is not required that the high terminal be connected to a potential greater than the low terminal. Voltage applied to the high terminal of each potentiometer (See Datasheet)", B1 A1 (in) "Address Input.", B2 SDA (io) "2-Wire serial data interface. The serial data pin is for serial data transfer to and from the DS1855. The pin is open drain and may be wire-ORed with other open drain or open collector interfaces.", B3 H1 "High terminal of Potentiometer 1.", B4 W1 "Wiper terminal of Pot 1. The wiper position of Potentiometer 1 is determined by the byte at EEPROM memory location F8h.", C1 WP (in) "Write Protect Input. If set to logic 0, the data in memory and the potentiometer wiper setting may be changed. If set to logic 1, both the memory and the potentiometer wiper settings will be write protected. The WP pin is (See Datasheet)", C2 A2 (in) "Address Input.", C3 NC "No Connect.", C4 L1 "Low terminal of Potentiometer 1.", D1 GND (power) "Ground Terminal.", D2 NC "No Connect.", D3 L0 "Low terminal of Potentiometer 0. For both potentiometers, it is not required that the low terminal be connected to a potential less than the high terminal. Voltage applied to the low terminal of each potentiometer cannot (See Datasheet)", D4 W0 "Wiper terminal of Pot 0. The wiper position of Potentiometer 0 is determined by the byte at EEPROM memory location F9h. Voltage applied to the wiper terminal of each potentiometer cannot exceed the power supply voltage, VCC, (See Datasheet)"

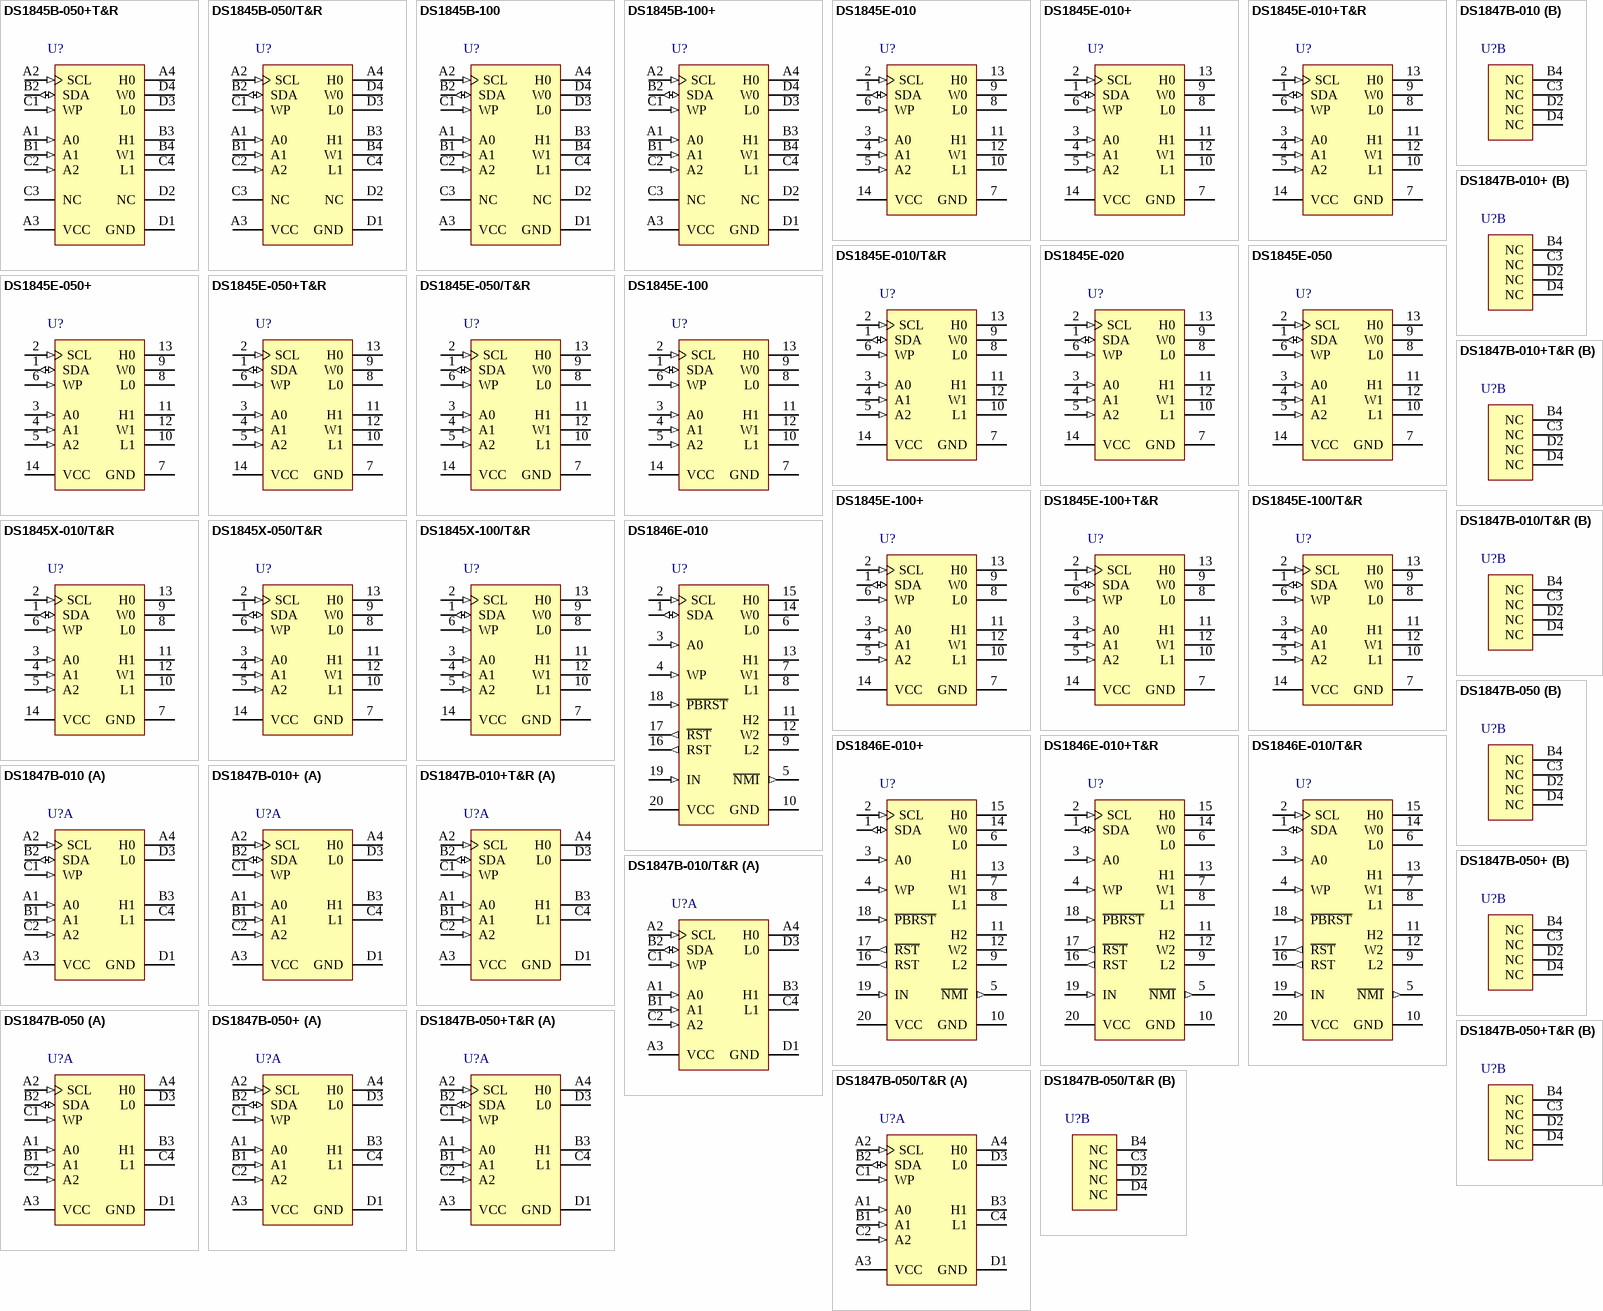
[diagram p7: symbols DS1845B-050+T&R to DS1847B-050/T&R]

## DS1845B-050+T&R
designator U?
Dual NV Potentiometer and Memory with 2-Wire Addressable Control Interface, Non-Volatile, Linear Taper, 100+256 Steps, -40 to 85 degC, 16-pin CSBGA (X16+1), Pb-Free, Tape and Reel; PartNumber: DS1845B-050+T&R; DatasheetVersion: Rev. 3; PackageVersion: Rev. B, 06/2010; PackageReference: X16+1; PackageDescription: 16-Ball Chip-Scale Ball-Grid Array (X16+1), Body 4 x 4 mm, Pitch 1.0 mm; Supplier 1: Digi-Key; Supplier Part Number 1: DS1845B-050+T&R-ND; Supplier 2: Mouser; Supplier Part Number 2: 700-DS1845B-050T&R; Applications: Fiber Communications, GBIC; Control Interface: 2-Wire Addressable; Features: 256-Byte User EEPROM, EEPROM Wiper Memory; Mounting Technology: Surface Mount; ComponentLink1Description: Manufacturer URL; ComponentLink1URL: http://www.maximintegrated.com/; ComponentLink2Description: Datasheet; ComponentLink2URL: http://datasheets.maximintegrated.com/en/ds/DS1845.pdf; ComponentLink3Description: Package Specification; ComponentLink3URL: http://pdfserv.maximintegrated.com/package_dwgs/21-0355.PDF
footprint MAXM-X16+1 (BGA, 16-Balls, Body 4x4mm, Pitch 1.0mm)
pins: A1 A0 (in) "Address Input. Pins A0, A1, and A2 are used to specify the address of each DS1855 when used in a multi-dropped configuration. Up to eight DS1855s may be addressed on a single 2-wire bus.", A2 SCL (in) "2-Wire Serial Clock Input. The serial clock input is used to clock data into the DS1855 on rising edges and clock data out on falling edges.", A3 VCC (power) "Power Supply Terminal. The DS1855 will support supply voltages ranging from +2.7V to +5.5V.", A4 H0 "High terminal of Potentiometer 0. For both potentiometers, it is not required that the high terminal be connected to a potential greater than the low terminal. Voltage applied to the high terminal of each potentiometer (See Datasheet)", B1 A1 (in) "Address Input.", B2 SDA (io) "2-Wire serial data interface. The serial data pin is for serial data transfer to and from the DS1855. The pin is open drain and may be wire-ORed with other open drain or open collector interfaces.", B3 H1 "High terminal of Potentiometer 1.", B4 W1 "Wiper terminal of Pot 1. The wiper position of Potentiometer 1 is determined by the byte at EEPROM memory location F8h.", C1 WP (in) "Write Protect Input. If set to logic 0, the data in memory and the potentiometer wiper setting may be changed. If set to logic 1, both the memory and the potentiometer wiper settings will be write protected. The WP pin is (See Datasheet)", C2 A2 (in) "Address Input.", C3 NC "No Connect.", C4 L1 "Low terminal of Potentiometer 1.", D1 GND (power) "Ground Terminal.", D2 NC "No Connect.", D3 L0 "Low terminal of Potentiometer 0. For both potentiometers, it is not required that the low terminal be connected to a potential less than the high terminal. Voltage applied to the low terminal of each potentiometer cannot (See Datasheet)", D4 W0 "Wiper terminal of Pot 0. The wiper position of Potentiometer 0 is determined by the byte at EEPROM memory location F9h. Voltage applied to the wiper terminal of each potentiometer cannot exceed the power supply voltage, VCC, (See Datasheet)"

## DS1845B-050/T&R
designator U?
Dual NV Potentiometer and Memory with 2-Wire Addressable Control Interface, Non-Volatile, Linear Taper, 100+256 Steps, -40 to 85 degC, 16-pin CSBGA (X16-1), Tape and Reel; PartNumber: DS1845B-050/T&R; DatasheetVersion: Rev. 3; PackageVersion: Rev. B, 06/2010; PackageReference: X16-1; PackageDescription: 16-Ball Chip-Scale Ball-Grid Array (X16-1), Body 4 x 4 mm, Pitch 1.0 mm; Supplier 1: Mouser; Supplier Part Number 1: N/A; Applications: Fiber Communications, GBIC; Control Interface: 2-Wire Addressable; Features: 256-Byte User EEPROM, EEPROM Wiper Memory; Mounting Technology: Surface Mount; ComponentLink1Description: Manufacturer URL; ComponentLink1URL: http://www.maximintegrated.com/; ComponentLink2Description: Datasheet; ComponentLink2URL: http://datasheets.maximintegrated.com/en/ds/DS1845.pdf; ComponentLink3Description: Package Specification; ComponentLink3URL: http://pdfserv.maximintegrated.com/package_dwgs/21-0355.PDF
footprint MAXM-X16-1 (BGA, 16-Balls, Body 4x4mm, Pitch 1.0mm)
pins: A1 A0 (in) "Address Input. Pins A0, A1, and A2 are used to specify the address of each DS1855 when used in a multi-dropped configuration. Up to eight DS1855s may be addressed on a single 2-wire bus.", A2 SCL (in) "2-Wire Serial Clock Input. The serial clock input is used to clock data into the DS1855 on rising edges and clock data out on falling edges.", A3 VCC (power) "Power Supply Terminal. The DS1855 will support supply voltages ranging from +2.7V to +5.5V.", A4 H0 "High terminal of Potentiometer 0. For both potentiometers, it is not required that the high terminal be connected to a potential greater than the low terminal. Voltage applied to the high terminal of each potentiometer (See Datasheet)", B1 A1 (in) "Address Input.", B2 SDA (io) "2-Wire serial data interface. The serial data pin is for serial data transfer to and from the DS1855. The pin is open drain and may be wire-ORed with other open drain or open collector interfaces.", B3 H1 "High terminal of Potentiometer 1.", B4 W1 "Wiper terminal of Pot 1. The wiper position of Potentiometer 1 is determined by the byte at EEPROM memory location F8h.", C1 WP (in) "Write Protect Input. If set to logic 0, the data in memory and the potentiometer wiper setting may be changed. If set to logic 1, both the memory and the potentiometer wiper settings will be write protected. The WP pin is (See Datasheet)", C2 A2 (in) "Address Input.", C3 NC "No Connect.", C4 L1 "Low terminal of Potentiometer 1.", D1 GND (power) "Ground Terminal.", D2 NC "No Connect.", D3 L0 "Low terminal of Potentiometer 0. For both potentiometers, it is not required that the low terminal be connected to a potential less than the high terminal. Voltage applied to the low terminal of each potentiometer cannot (See Datasheet)", D4 W0 "Wiper terminal of Pot 0. The wiper position of Potentiometer 0 is determined by the byte at EEPROM memory location F9h. Voltage applied to the wiper terminal of each potentiometer cannot exceed the power supply voltage, VCC, (See Datasheet)"